# Altium schematic symbol library XTAL_4.SchLib: 1 symbol
Pins are listed as number, name and electrical type; pins without a type are passive.

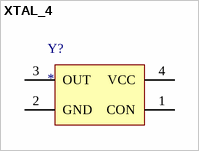
[diagram p0: symbol XTAL_4]

## XTAL_4
designator Y?
pins: 1 CON, 2 GND, 3 OUT (power), 4 VCC (power)